# Altium schematic symbol library NCP81233MNTXG.SchLib: 1 symbol
Pins are listed as number, name and electrical type; pins without a type are passive.

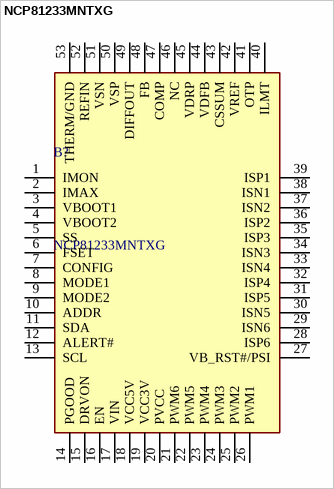
[diagram p0: symbol NCP81233MNTXG]

## NCP81233MNTXG
designator B?
Multi-Phase Controller, Configurable, 4.5 V to 20 V, I2C; Manufacturer_Name: onsemi; Geometry.Height: 1mm; Mouser Part Number: 863-NCP81233MNTXG; Mouser Price/Stock: https://www.mouser.co.uk/ProductDetail/ON-Semiconductor/NCP81233MNTXG/?qs=z6PAvqrnkvQJZ4opJwgsbQ%3D%3D; Manufacturer_Part_Number: NCP81233MNTXG; Datasheet Link: http://www.onsemi.com/pub/Collateral/NCP81233-D.PDF
footprint QFN40P600X600X100-53N
pins: 1 IMON, 2 IMAX, 3 VBOOT1, 4 VBOOT2, 5 SS, 6 FSET, 7 CONFIG, 8 MODE1, 9 MODE2, 10 ADDR, 11 SDA, 12 ALERT#, 13 SCL, 14 PGOOD, 15 DRVON, 16 EN, 17 VIN, 18 VCC5V, 19 VCC3V, 20 PVCC, 21 PWM6, 22 PWM5, 23 PWM4, 24 PWM3, 25 PWM2, 26 PWM1, 27 VB_RST#/PSI, 28 ISP6, 29 ISN6, 30 ISN5, 31 ISP5, 32 ISP4, 33 ISN4, 34 ISN3, 35 ISP3, 36 ISP2, 37 ISN2, 38 ISN1, 39 ISP1, 40 ILMT, 41 OTP, 42 VREF, 43 CSSUM, 44 VDFB, 45 VDRP, 46 NC, 47 COMP, 48 FB, 49 DIFFOUT, 50 VSP, 51 VSN, 52 REFIN, 53 THERM/GND